# Altium schematic symbol library bmsSlave.SchLib: 4 symbols
Pins are listed as number, name and electrical type; pins without a type are passive.

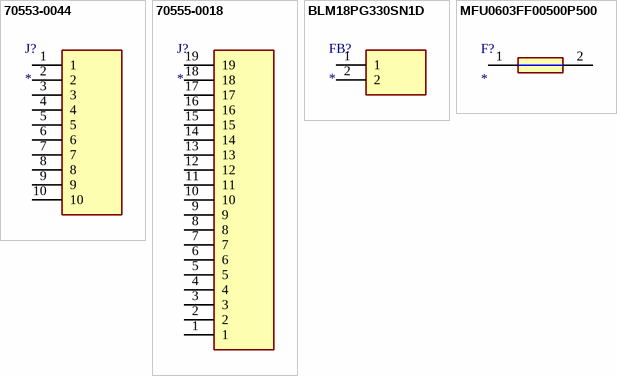
[diagram p0: symbols 70553-0044 to MFU0603FF00500P500]

## 70553-0044
designator J?
Connector; Manufacturer_Name: Molex; Manufacturer_Part_Number: 70553-0044; Datasheet Link: https://www.molex.com/pdm_docs/sd/705530044_sd.pdf; Height: 7.12mm; Mouser Part Number: 538-70553-0044; Mouser Price/Stock: https://www.mouser.co.uk/ProductDetail/Molex/70553-0044?qs=MYfYmQ4RRgbAysUAVOcSCQ%3D%3D
footprint 705550044
pins: 1, 2, 3, 4, 5, 6, 7, 8, 9, 10

## 70555-0018
designator J?
Connector; Manufacturer_Name: Molex; Manufacturer_Part_Number: 70555-0018; Datasheet Link: https://www.molex.com/pdm_docs/sd/705550018_sd.pdf; Height: 7mm
footprint 705550018
pins: 1, 2, 3, 4, 5, 6, 7, 8, 9, 10, 11, 12, 13, 14, 15, 16, 17, 18, 19

## BLM18PG330SN1D
designator FB?
Ferrite Bead; Manufacturer_Name: Murata Electronics; Manufacturer_Part_Number: BLM18PG330SN1D; Datasheet Link: http://www.murata.com/~/media/webrenewal/support/library/catalog/products/emc/emifil/c31e.ashx?la=en-gb; Height: 0.95mm; Mouser Part Number: 81-BLM18PG330SN1D; Mouser Price/Stock: https://www.mouser.co.uk/ProductDetail/Murata-Electronics/BLM18PG330SN1D?qs=4Avc3lXqH4bdltMAIp8Scg%3D%3D; Arrow Part Number: BLM18PG330SN1D; Arrow Price/Stock: https://www.arrow.com/en/products/blm18pg330sn1d/murata-manufacturing?region=nac
footprint BEADC1608X95N
pins: 1, 2

## MFU0603FF00500P500
designator F?
Fuse; Manufacturer_Name: Vishay; Manufacturer_Part_Number: MFU0603FF00500P500; Datasheet Link: https://componentsearchengine.com/Datasheets/1/MFU0603FF00500P500.pdf; Height: 0.55mm; Mouser Part Number: 594-MFU0603-FF-0.5; Mouser Price/Stock: https://www.mouser.co.uk/ProductDetail/Vishay-Beyschlag/MFU0603FF00500P500?qs=Ok6sVjDQtqZISHXP1RFN1Q%3D%3D
footprint FUSC1608X55N
pins: 1, 2